# EAGLE library part PAM8901/8908 (library pimoroni-ics)
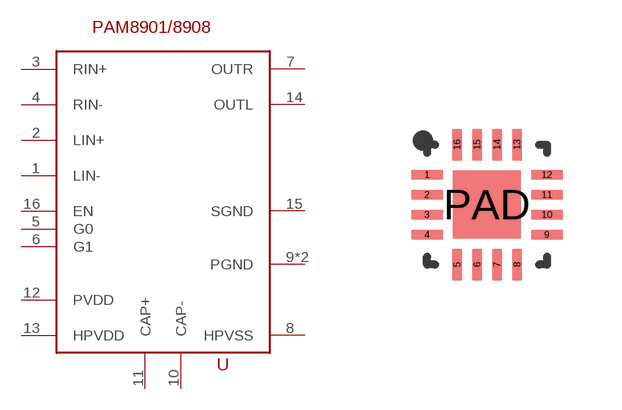
[diagram p113: symbol with the pads of QFN-16; footprint QFN-16]

Designator prefix U

## PAM8901/8908PAM8901  [QFN-16]
1  LIN-
2  LIN+
3  RIN+
4  RIN-
5  G0
6  G1
7  OUTR
8  HPVSS
9  PGND
10  CAP-
11  CAP+
12  PVDD
13  HPVDD
14  OUTL
15  SGND
16  EN
PAD  PGND

## PAM8901/8908PAM8908  [QFN-16]
1  LIN-
2  LIN+
3  RIN+
4  RIN-
5  OUTR
6  G0
7  G1
8  HPVSS
9  CAP-
10  PGND
11  CAP+
12  HPVDD
13  EN
14  PVDD
15  SGND
16  OUTL
PAD  PGND

## Footprint QFN-16 (pad centres in mm)
smd 0.8 x 0.25: 1 -1.5,0.75; 2 -1.5,0.25; 3 -1.5,-0.25; 4 -1.5,-0.75; 9 1.5,-0.75; 10 1.5,-0.25; 11 1.5,0.25; 12 1.5,0.75
smd 0.25 x 0.8: 5 -0.75,-1.5; 6 -0.25,-1.5; 7 0.25,-1.5; 8 0.75,-1.5; 13 0.75,1.5; 14 0.25,1.5; 15 -0.25,1.5; 16 -0.75,1.5
smd 1.7 x 1.7: PAD 0,0